# Altium footprint library OL_0603_1608_RA.pcblib: 1 footprints
Each footprint in its own frame and in the unit in brackets; x right, y up, seen from the top. Pads: shape width x height; smd on the part's side, far side on the other; paste and mask are expansions set on the pad; w line width, h text height; cw(c..) or ccw(c..) is an arc to the next point about the centre after c.
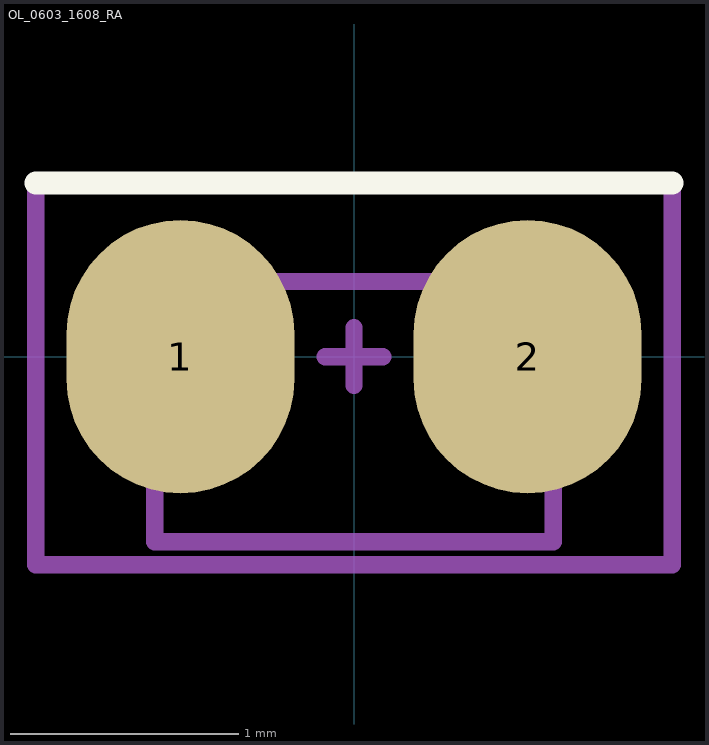
[diagram p0: the footprint, top view; thin cyan lines are the x and y axes]

## OL_0603_1608_RA [mm]
pads (2):
  oval 1x1.2 smd mask+0.1: 1(-0.762,0) 2(0.762,0)
Top Overlay:
  lines w0.1: -1.397,0.762 1.397,0.762
Mechanical 13:
  lines w0.076: -0.875,-0.813 -0.875,0.33 0.875,0.33 0.875,-0.813 -0.875,-0.813
Mechanical 15:
  lines w0.076: -0.127,0 0.127,0 ; 0,-0.127 0,0.127 ; -1.397,-0.914 -1.397,0.762 1.397,0.762 1.397,-0.914 -1.397,-0.914
Mechanical 17:
  text "'.Designator'" at -1.346,-0.178 h0.2
3D body "User Library-LTST-S270KFKT.step": height 0.6, standoff 0, extent -0.8,-0.82 0.85,0.33